# Altium schematic symbol library WE-HCI.SchLib: 126 symbols (part 1 of 3)
Pins are listed as number, name and electrical type; pins without a type are passive.

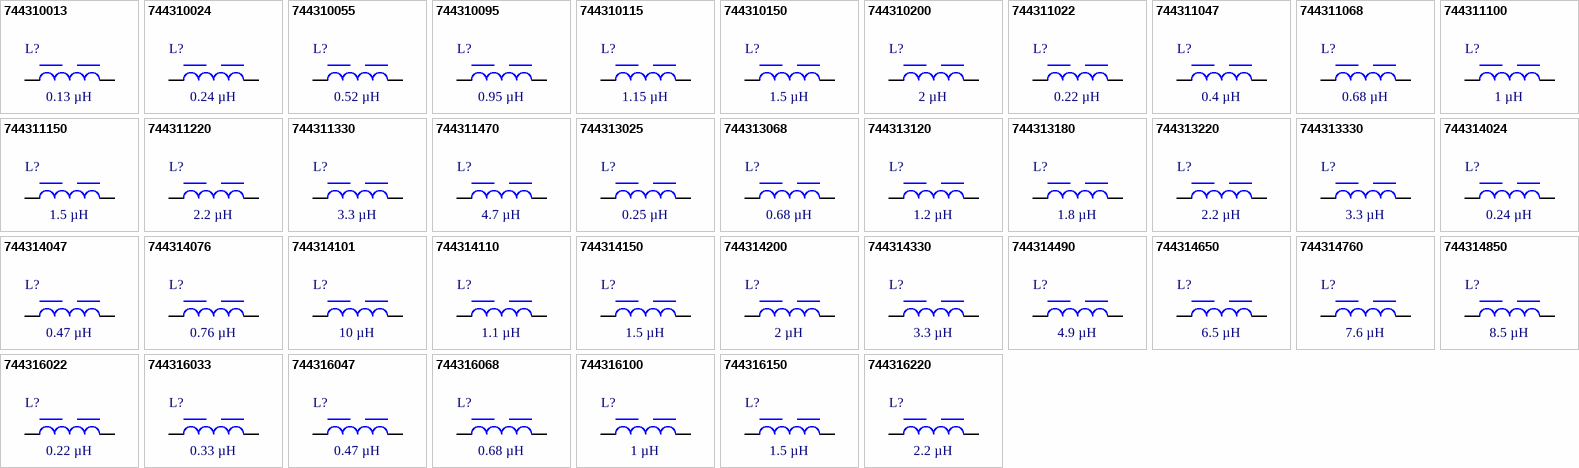
[diagram p0: symbols 744310013 to 744316220]

## 744310013
designator L?, comment 0.13 µH
WE-HCI SMT Flat Wire High Current Inductor, size 7030, 0.13 µH, 40.75 A, 0.91 mΩ; Manufacturer Part Number: 744310013; Manufacturer: Wurth Elektronik; Case/Size Code: 7030; DC Resistance: 0.91 mΩ; Material: Superflux; Performance Rated Current: 40.75 A; Saturation Current: 48 A; Self Resonant Frequency: 400 MHz; Category: Power Inductors; Match Code: WE-HCI; ComponentLink1Description: Website Link; ComponentLink1URL: https://www.we-online.com/redexpert/article/744310013?ad; ComponentLink2Description: Datasheet Link; ComponentLink2URL: https://www.we-online.com/redexpert/spec/744310013?ad; Mount: Surface Mount; Min Operating Temperature: -40 °C; Max Operating Temperature: 150 °C; Packaging: Tape and Reel; Length: 6.9 mm; Width: 6.9 mm; Height: 3 mm; Inductance: 0.13 µH
footprint WE-HCI_7030
simulation model 7030_744310013_0.13u
pins: 1, 2

## 744310024
designator L?, comment 0.24 µH
WE-HCI SMT Flat Wire High Current Inductor, size 7030, 0.24 µH, 28.8 A, 1.8 mΩ; Manufacturer Part Number: 744310024; Manufacturer: Wurth Elektronik; Case/Size Code: 7030; DC Resistance: 1.8 mΩ; Material: Superflux; Performance Rated Current: 28.8 A; Saturation Current: 40 A; Self Resonant Frequency: 220 MHz; Category: Power Inductors; Match Code: WE-HCI; ComponentLink1Description: Website Link; ComponentLink1URL: https://www.we-online.com/redexpert/article/744310024?ad; ComponentLink2Description: Datasheet Link; ComponentLink2URL: https://www.we-online.com/redexpert/spec/744310024?ad; Mount: Surface Mount; Min Operating Temperature: -40 °C; Max Operating Temperature: 150 °C; Packaging: Tape and Reel; Length: 6.9 mm; Width: 6.9 mm; Height: 3 mm; Inductance: 0.24 µH
footprint WE-HCI_7030
simulation model 7030_744310024_0.24u
pins: 1, 2

## 744310055
designator L?, comment 0.52 µH
WE-HCI SMT Flat Wire High Current Inductor, size 7030, 0.52 µH, 19.2 A, 3.7 mΩ; Manufacturer Part Number: 744310055; Manufacturer: Wurth Elektronik; Case/Size Code: 7030; DC Resistance: 3.7 mΩ; Material: Superflux; Performance Rated Current: 19.2 A; Saturation Current: 20 A; Self Resonant Frequency: 140 MHz; Category: Power Inductors; Match Code: WE-HCI; ComponentLink1Description: Website Link; ComponentLink1URL: https://www.we-online.com/redexpert/article/744310055?ad; ComponentLink2Description: Datasheet Link; ComponentLink2URL: https://www.we-online.com/redexpert/spec/744310055?ad; Mount: Surface Mount; Min Operating Temperature: -40 °C; Max Operating Temperature: 150 °C; Packaging: Tape and Reel; Length: 6.9 mm; Width: 6.9 mm; Height: 3 mm; Inductance: 0.52 µH
footprint WE-HCI_7030
simulation model 7030_744310055_0.52u
pins: 1, 2

## 744310095
designator L?, comment 0.95 µH
WE-HCI SMT Flat Wire High Current Inductor, size 7030, 0.95 µH, 14.4 A, 6.2 mΩ; Manufacturer Part Number: 744310095; Manufacturer: Wurth Elektronik; Case/Size Code: 7030; DC Resistance: 6.2 mΩ; Material: Superflux; Performance Rated Current: 14.4 A; Saturation Current: 13 A; Self Resonant Frequency: 90 MHz; Category: Power Inductors; Match Code: WE-HCI; ComponentLink1Description: Website Link; ComponentLink1URL: https://www.we-online.com/redexpert/article/744310095?ad; ComponentLink2Description: Datasheet Link; ComponentLink2URL: https://www.we-online.com/redexpert/spec/744310095?ad; Mount: Surface Mount; Min Operating Temperature: -40 °C; Max Operating Temperature: 150 °C; Packaging: Tape and Reel; Length: 6.9 mm; Width: 6.9 mm; Height: 3 mm; Inductance: 0.95 µH
footprint WE-HCI_7030
simulation model 7030_744310095_0.95u
pins: 1, 2

## 744310115
designator L?, comment 1.15 µH
WE-HCI SMT Flat Wire High Current Inductor, size 7030, 1.15 µH, 11.8 A, 8.6 mΩ; Manufacturer Part Number: 744310115; Manufacturer: Wurth Elektronik; Case/Size Code: 7030; DC Resistance: 8.6 mΩ; Material: Superflux; Performance Rated Current: 11.8 A; Saturation Current: 13 A; Self Resonant Frequency: 84 MHz; Category: Power Inductors; Match Code: WE-HCI; ComponentLink1Description: Website Link; ComponentLink1URL: https://www.we-online.com/redexpert/article/744310115?ad; ComponentLink2Description: Datasheet Link; ComponentLink2URL: https://www.we-online.com/redexpert/spec/744310115?ad; Mount: Surface Mount; Min Operating Temperature: -40 °C; Max Operating Temperature: 150 °C; Packaging: Tape and Reel; Length: 6.9 mm; Width: 6.9 mm; Height: 3 mm; Inductance: 1.15 µH
footprint WE-HCI_7030
simulation model 7030_744310115_1.15u
pins: 1, 2

## 744310150
designator L?, comment 1.5 µH
WE-HCI SMT Flat Wire High Current Inductor, size 7030, 1.5 µH, 9.6 A, 12.7 mΩ; Manufacturer Part Number: 744310150; Manufacturer: Wurth Elektronik; Case/Size Code: 7030; DC Resistance: 12.7 mΩ; Material: Superflux; Performance Rated Current: 9.6 A; Saturation Current: 12 A; Self Resonant Frequency: 80 MHz; Category: Power Inductors; Match Code: WE-HCI; ComponentLink1Description: Website Link; ComponentLink1URL: https://www.we-online.com/redexpert/article/744310150?ad; ComponentLink2Description: Datasheet Link; ComponentLink2URL: https://www.we-online.com/redexpert/spec/744310150?ad; Mount: Surface Mount; Min Operating Temperature: -40 °C; Max Operating Temperature: 150 °C; Packaging: Tape and Reel; Length: 6.9 mm; Width: 6.9 mm; Height: 3 mm; Inductance: 1.5 µH
footprint WE-HCI_7030
simulation model 7030_744310150_1.5u
pins: 1, 2

## 744310200
designator L?, comment 2 µH
WE-HCI SMT Flat Wire High Current Inductor, size 7030, 2 µH, 8.7 A, 14.2 mΩ; Manufacturer Part Number: 744310200; Manufacturer: Wurth Elektronik; Case/Size Code: 7030; DC Resistance: 14.2 mΩ; Material: Superflux; Performance Rated Current: 8.7 A; Saturation Current: 9 A; Self Resonant Frequency: 58 MHz; Category: Power Inductors; Match Code: WE-HCI; ComponentLink1Description: Website Link; ComponentLink1URL: https://www.we-online.com/redexpert/article/744310200?ad; ComponentLink2Description: Datasheet Link; ComponentLink2URL: https://www.we-online.com/redexpert/spec/744310200?ad; Mount: Surface Mount; Min Operating Temperature: -40 °C; Max Operating Temperature: 150 °C; Packaging: Tape and Reel; Length: 6.9 mm; Width: 6.9 mm; Height: 3 mm; Inductance: 2 µH
footprint WE-HCI_7030
simulation model 7030_744310200_2u
pins: 1, 2

## 744311022
designator L?, comment 0.22 µH
WE-HCI SMT Flat Wire High Current Inductor, size 7040, 0.22 µH, 36.4 A, 1.1 mΩ; Manufacturer Part Number: 744311022; Manufacturer: Wurth Elektronik; Case/Size Code: 7040; DC Resistance: 1.1 mΩ; Material: Superflux; Performance Rated Current: 36.4 A; Saturation Current: 32 A; Self Resonant Frequency: 290 MHz; Category: Power Inductors; Match Code: WE-HCI; ComponentLink1Description: Website Link; ComponentLink1URL: https://www.we-online.com/redexpert/article/744311022?ad; ComponentLink2Description: Datasheet Link; ComponentLink2URL: https://www.we-online.com/redexpert/spec/744311022?ad; Mount: Surface Mount; Min Operating Temperature: -40 °C; Max Operating Temperature: 150 °C; Packaging: Tape and Reel; Length: 6.9 mm; Width: 6.9 mm; Height: 3.8 mm; Inductance: 0.22 µH
footprint WE-HCI_7040
simulation model 7040_744311022_0.22u
pins: 1, 2

## 744311047
designator L?, comment 0.4 µH
WE-HCI SMT Flat Wire High Current Inductor, size 7040, 0.4 µH, 27.9 A, 1.85 mΩ; Manufacturer Part Number: 744311047; Manufacturer: Wurth Elektronik; Case/Size Code: 7040; DC Resistance: 1.85 mΩ; Material: Superflux; Performance Rated Current: 27.9 A; Saturation Current: 25 A; Self Resonant Frequency: 250 MHz; Category: Power Inductors; Match Code: WE-HCI; ComponentLink1Description: Website Link; ComponentLink1URL: https://www.we-online.com/redexpert/article/744311047?ad; ComponentLink2Description: Datasheet Link; ComponentLink2URL: https://www.we-online.com/redexpert/spec/744311047?ad; Mount: Surface Mount; Min Operating Temperature: -40 °C; Max Operating Temperature: 150 °C; Packaging: Tape and Reel; Length: 6.9 mm; Width: 6.9 mm; Height: 3.8 mm; Inductance: 0.4 µH
footprint WE-HCI_7040
simulation model 7040_744311047_0.4u
pins: 1, 2

## 744311068
designator L?, comment 0.68 µH
WE-HCI SMT Flat Wire High Current Inductor, size 7040, 0.68 µH, 20.9 A, 3.1 mΩ; Manufacturer Part Number: 744311068; Manufacturer: Wurth Elektronik; Case/Size Code: 7040; DC Resistance: 3.1 mΩ; Material: Superflux; Performance Rated Current: 20.9 A; Saturation Current: 20 A; Self Resonant Frequency: 105 MHz; Category: Power Inductors; Match Code: WE-HCI; ComponentLink1Description: Website Link; ComponentLink1URL: https://www.we-online.com/redexpert/article/744311068?ad; ComponentLink2Description: Datasheet Link; ComponentLink2URL: https://www.we-online.com/redexpert/spec/744311068?ad; Mount: Surface Mount; Min Operating Temperature: -40 °C; Max Operating Temperature: 150 °C; Packaging: Tape and Reel; Length: 6.9 mm; Width: 6.9 mm; Height: 3.8 mm; Inductance: 0.68 µH
footprint WE-HCI_7040
simulation model 7040_744311068_0.68u
pins: 1, 2

## 744311100
designator L?, comment 1 µH
WE-HCI SMT Flat Wire High Current Inductor, size 7040, 1 µH, 16.8 A, 4.6 mΩ; Manufacturer Part Number: 744311100; Manufacturer: Wurth Elektronik; Case/Size Code: 7040; DC Resistance: 4.6 mΩ; Material: Superflux; Performance Rated Current: 16.8 A; Saturation Current: 19 A; Self Resonant Frequency: 85 MHz; Category: Power Inductors; Match Code: WE-HCI; ComponentLink1Description: Website Link; ComponentLink1URL: https://www.we-online.com/redexpert/article/744311100?ad; ComponentLink2Description: Datasheet Link; ComponentLink2URL: https://www.we-online.com/redexpert/spec/744311100?ad; Mount: Surface Mount; Min Operating Temperature: -40 °C; Max Operating Temperature: 150 °C; Packaging: Tape and Reel; Length: 6.9 mm; Width: 6.9 mm; Height: 3.8 mm; Inductance: 1 µH
footprint WE-HCI_7040
simulation model 7040_744311100_1u
pins: 1, 2

## 744311150
designator L?, comment 1.5 µH
WE-HCI SMT Flat Wire High Current Inductor, size 7040, 1.5 µH, 13.8 A, 6.6 mΩ; Manufacturer Part Number: 744311150; Manufacturer: Wurth Elektronik; Case/Size Code: 7040; DC Resistance: 6.6 mΩ; Material: Superflux; Performance Rated Current: 13.8 A; Saturation Current: 14 A; Self Resonant Frequency: 72 MHz; Category: Power Inductors; Match Code: WE-HCI; ComponentLink1Description: Website Link; ComponentLink1URL: https://www.we-online.com/redexpert/article/744311150?ad; ComponentLink2Description: Datasheet Link; ComponentLink2URL: https://www.we-online.com/redexpert/spec/744311150?ad; Mount: Surface Mount; Min Operating Temperature: -40 °C; Max Operating Temperature: 150 °C; Packaging: Tape and Reel; Length: 6.9 mm; Width: 6.9 mm; Height: 3.8 mm; Inductance: 1.5 µH
footprint WE-HCI_7040
simulation model 7040_744311150_1.5u
pins: 1, 2

## 744311220
designator L?, comment 2.2 µH
WE-HCI SMT Flat Wire High Current Inductor, size 7040, 2.2 µH, 10.2 A, 11.4 mΩ; Manufacturer Part Number: 744311220; Manufacturer: Wurth Elektronik; Case/Size Code: 7040; DC Resistance: 11.4 mΩ; Material: Superflux; Performance Rated Current: 10.2 A; Saturation Current: 13 A; Self Resonant Frequency: 52 MHz; Category: Power Inductors; Match Code: WE-HCI; ComponentLink1Description: Website Link; ComponentLink1URL: https://www.we-online.com/redexpert/article/744311220?ad; ComponentLink2Description: Datasheet Link; ComponentLink2URL: https://www.we-online.com/redexpert/spec/744311220?ad; Mount: Surface Mount; Min Operating Temperature: -40 °C; Max Operating Temperature: 150 °C; Packaging: Tape and Reel; Length: 6.9 mm; Width: 6.9 mm; Height: 3.8 mm; Inductance: 2.2 µH
footprint WE-HCI_7040
simulation model 7040_744311220_2.2u
pins: 1, 2

## 744311330
designator L?, comment 3.3 µH
WE-HCI SMT Flat Wire High Current Inductor, size 7040, 3.3 µH, 8.1 A, 17.2 mΩ; Manufacturer Part Number: 744311330; Manufacturer: Wurth Elektronik; Case/Size Code: 7040; DC Resistance: 17.2 mΩ; Material: Superflux; Performance Rated Current: 8.1 A; Saturation Current: 11 A; Self Resonant Frequency: 43 MHz; Category: Power Inductors; Match Code: WE-HCI; ComponentLink1Description: Website Link; ComponentLink1URL: https://www.we-online.com/redexpert/article/744311330?ad; ComponentLink2Description: Datasheet Link; ComponentLink2URL: https://www.we-online.com/redexpert/spec/744311330?ad; Mount: Surface Mount; Min Operating Temperature: -40 °C; Max Operating Temperature: 150 °C; Packaging: Tape and Reel; Length: 6.9 mm; Width: 6.9 mm; Height: 3.8 mm; Inductance: 3.3 µH
footprint WE-HCI_7040
simulation model 7040_744311330_3.3u
pins: 1, 2

## 744311470
designator L?, comment 4.7 µH
WE-HCI SMT Flat Wire High Current Inductor, size 7040, 4.7 µH, 7.8 A, 19.5 mΩ; Manufacturer Part Number: 744311470; Manufacturer: Wurth Elektronik; Case/Size Code: 7040; DC Resistance: 19.5 mΩ; Material: Superflux; Performance Rated Current: 7.8 A; Saturation Current: 7 A; Self Resonant Frequency: 33 MHz; Category: Power Inductors; Match Code: WE-HCI; ComponentLink1Description: Website Link; ComponentLink1URL: https://www.we-online.com/redexpert/article/744311470?ad; ComponentLink2Description: Datasheet Link; ComponentLink2URL: https://www.we-online.com/redexpert/spec/744311470?ad; Mount: Surface Mount; Min Operating Temperature: -40 °C; Max Operating Temperature: 150 °C; Packaging: Tape and Reel; Length: 6.9 mm; Width: 6.9 mm; Height: 3.8 mm; Inductance: 4.7 µH
footprint WE-HCI_7040
simulation model 7040_744311470_4.7u
pins: 1, 2

## 744313025
designator L?, comment 0.25 µH
WE-HCI SMT Flat Wire High Current Inductor, size 1335, 0.25 µH, 61.7 A, 0.75 mΩ; Manufacturer Part Number: 744313025; Manufacturer: Wurth Elektronik; Case/Size Code: 1335; DC Resistance: 0.75 mΩ; Material: Superflux; Performance Rated Current: 61.7 A; Saturation Current: 60 A; Self Resonant Frequency: 170 MHz; Category: Power Inductors; Match Code: WE-HCI; ComponentLink1Description: Website Link; ComponentLink1URL: https://www.we-online.com/redexpert/article/744313025?ad; ComponentLink2Description: Datasheet Link; ComponentLink2URL: https://www.we-online.com/redexpert/spec/744313025?ad; Mount: Surface Mount; Min Operating Temperature: -40 °C; Max Operating Temperature: 150 °C; Packaging: Tape and Reel; Length: 12.8 mm; Width: 12.8 mm; Height: 3.3 mm; Inductance: 0.25 µH
footprint WE-HCI_1335
simulation model 1335_744313025_0.25u
pins: 1, 2

## 744313068
designator L?, comment 0.68 µH
WE-HCI SMT Flat Wire High Current Inductor, size 1335, 0.68 µH, 38.5 A, 1.58 mΩ; Manufacturer Part Number: 744313068; Manufacturer: Wurth Elektronik; Case/Size Code: 1335; DC Resistance: 1.58 mΩ; Material: Superflux; Performance Rated Current: 38.5 A; Saturation Current: 40 A; Self Resonant Frequency: 90 MHz; Category: Power Inductors; Match Code: WE-HCI; ComponentLink1Description: Website Link; ComponentLink1URL: https://www.we-online.com/redexpert/article/744313068?ad; ComponentLink2Description: Datasheet Link; ComponentLink2URL: https://www.we-online.com/redexpert/spec/744313068?ad; Mount: Surface Mount; Min Operating Temperature: -40 °C; Max Operating Temperature: 150 °C; Packaging: Tape and Reel; Length: 12.8 mm; Width: 12.8 mm; Height: 3.3 mm; Inductance: 0.68 µH
footprint WE-HCI_1335
simulation model 1335_744313068_0.68u
pins: 1, 2

## 744313120
designator L?, comment 1.2 µH
WE-HCI SMT Flat Wire High Current Inductor, size 1335, 1.2 µH, 28.8 A, 2.85 mΩ; Manufacturer Part Number: 744313120; Manufacturer: Wurth Elektronik; Case/Size Code: 1335; DC Resistance: 2.85 mΩ; Material: Superflux; Performance Rated Current: 28.8 A; Saturation Current: 28 A; Self Resonant Frequency: 58 MHz; Category: Power Inductors; Match Code: WE-HCI; ComponentLink1Description: Website Link; ComponentLink1URL: https://www.we-online.com/redexpert/article/744313120?ad; ComponentLink2Description: Datasheet Link; ComponentLink2URL: https://www.we-online.com/redexpert/spec/744313120?ad; Mount: Surface Mount; Min Operating Temperature: -40 °C; Max Operating Temperature: 150 °C; Packaging: Tape and Reel; Length: 12.8 mm; Width: 12.8 mm; Height: 3.3 mm; Inductance: 1.2 µH
footprint WE-HCI_1335
simulation model 1335_744313120_1.2u
pins: 1, 2

## 744313180
designator L?, comment 1.8 µH
WE-HCI SMT Flat Wire High Current Inductor, size 1335, 1.8 µH, 19.5 A, 5.6 mΩ; Manufacturer Part Number: 744313180; Manufacturer: Wurth Elektronik; Case/Size Code: 1335; DC Resistance: 5.6 mΩ; Material: Superflux; Performance Rated Current: 19.5 A; Saturation Current: 22 A; Self Resonant Frequency: 48 MHz; Category: Power Inductors; Match Code: WE-HCI; ComponentLink1Description: Website Link; ComponentLink1URL: https://www.we-online.com/redexpert/article/744313180?ad; ComponentLink2Description: Datasheet Link; ComponentLink2URL: https://www.we-online.com/redexpert/spec/744313180?ad; Mount: Surface Mount; Min Operating Temperature: -40 °C; Max Operating Temperature: 150 °C; Packaging: Tape and Reel; Length: 12.8 mm; Width: 12.8 mm; Height: 3.3 mm; Inductance: 1.8 µH
footprint WE-HCI_1335
simulation model 1335_744313180_1.8u
pins: 1, 2

## 744313220
designator L?, comment 2.2 µH
WE-HCI SMT Flat Wire High Current Inductor, size 1335, 2.2 µH, 19.4 A, 5.7 mΩ; Manufacturer Part Number: 744313220; Manufacturer: Wurth Elektronik; Case/Size Code: 1335; DC Resistance: 5.7 mΩ; Material: Superflux; Performance Rated Current: 19.4 A; Saturation Current: 18 A; Self Resonant Frequency: 40 MHz; Category: Power Inductors; Match Code: WE-HCI; ComponentLink1Description: Website Link; ComponentLink1URL: https://www.we-online.com/redexpert/article/744313220?ad; ComponentLink2Description: Datasheet Link; ComponentLink2URL: https://www.we-online.com/redexpert/spec/744313220?ad; Mount: Surface Mount; Min Operating Temperature: -40 °C; Max Operating Temperature: 150 °C; Packaging: Tape and Reel; Length: 12.8 mm; Width: 12.8 mm; Height: 3.3 mm; Inductance: 2.2 µH
footprint WE-HCI_1335
simulation model 1335_744313220_2.2u
pins: 1, 2

## 744313330
designator L?, comment 3.3 µH
WE-HCI SMT Flat Wire High Current Inductor, size 1335, 3.3 µH, 16.3 A, 8.1 mΩ; Manufacturer Part Number: 744313330; Manufacturer: Wurth Elektronik; Case/Size Code: 1335; DC Resistance: 8.1 mΩ; Material: Superflux; Performance Rated Current: 16.3 A; Saturation Current: 14 A; Self Resonant Frequency: 30 MHz; Category: Power Inductors; Match Code: WE-HCI; ComponentLink1Description: Website Link; ComponentLink1URL: https://www.we-online.com/redexpert/article/744313330?ad; ComponentLink2Description: Datasheet Link; ComponentLink2URL: https://www.we-online.com/redexpert/spec/744313330?ad; Mount: Surface Mount; Min Operating Temperature: -40 °C; Max Operating Temperature: 150 °C; Packaging: Tape and Reel; Length: 12.8 mm; Width: 12.8 mm; Height: 3.3 mm; Inductance: 3.3 µH
footprint WE-HCI_1335
simulation model 1335_744313330_3.3u
pins: 1, 2

## 744314024
designator L?, comment 0.24 µH
WE-HCI SMT Flat Wire High Current Inductor, size 7050, 0.24 µH, 35.4 A, 1 mΩ; Manufacturer Part Number: 744314024; Manufacturer: Wurth Elektronik; Case/Size Code: 7050; DC Resistance: 1 mΩ; Material: Superflux; Performance Rated Current: 35.4 A; Saturation Current: 28 A; Self Resonant Frequency: 320 MHz; Category: Power Inductors; Match Code: WE-HCI; ComponentLink1Description: Website Link; ComponentLink1URL: https://www.we-online.com/redexpert/article/744314024?ad; ComponentLink2Description: Datasheet Link; ComponentLink2URL: https://www.we-online.com/redexpert/spec/744314024?ad; Mount: Surface Mount; Min Operating Temperature: -40 °C; Max Operating Temperature: 150 °C; Packaging: Tape and Reel; Length: 6.9 mm; Width: 6.9 mm; Height: 4.8 mm; Inductance: 0.24 µH
footprint WE-HCI_7050
simulation model 7050_744314024_0.24u
pins: 1, 2

## 744314047
designator L?, comment 0.47 µH
WE-HCI SMT Flat Wire High Current Inductor, size 7050, 0.47 µH, 31.9 A, 1.35 mΩ; Manufacturer Part Number: 744314047; Manufacturer: Wurth Elektronik; Case/Size Code: 7050; DC Resistance: 1.35 mΩ; Material: Superflux; Performance Rated Current: 31.9 A; Saturation Current: 20 A; Self Resonant Frequency: 235 MHz; Category: Power Inductors; Match Code: WE-HCI; ComponentLink1Description: Website Link; ComponentLink1URL: https://www.we-online.com/redexpert/article/744314047?ad; ComponentLink2Description: Datasheet Link; ComponentLink2URL: https://www.we-online.com/redexpert/spec/744314047?ad; Mount: Surface Mount; Min Operating Temperature: -40 °C; Max Operating Temperature: 150 °C; Packaging: Tape and Reel; Length: 6.9 mm; Width: 6.9 mm; Height: 4.8 mm; Inductance: 0.47 µH
footprint WE-HCI_7050
simulation model 7050_744314047_0.47u
pins: 1, 2

## 744314076
designator L?, comment 0.76 µH
WE-HCI SMT Flat Wire High Current Inductor, size 7050, 0.76 µH, 22.9 A, 2.25 mΩ; Manufacturer Part Number: 744314076; Manufacturer: Wurth Elektronik; Case/Size Code: 7050; DC Resistance: 2.25 mΩ; Material: Superflux; Performance Rated Current: 22.9 A; Saturation Current: 15 A; Self Resonant Frequency: 200 MHz; Category: Power Inductors; Match Code: WE-HCI; ComponentLink1Description: Website Link; ComponentLink1URL: https://www.we-online.com/redexpert/article/744314076?ad; ComponentLink2Description: Datasheet Link; ComponentLink2URL: https://www.we-online.com/redexpert/spec/744314076?ad; Mount: Surface Mount; Min Operating Temperature: -40 °C; Max Operating Temperature: 150 °C; Packaging: Tape and Reel; Length: 6.9 mm; Width: 6.9 mm; Height: 4.8 mm; Inductance: 0.76 µH
footprint WE-HCI_7050
simulation model 7050_744314076_0.76u
pins: 1, 2

## 744314101
designator L?, comment 10 µH
WE-HCI SMT Flat Wire High Current Inductor, size 7050, 10 µH, 5.3 A, 33 mΩ; Manufacturer Part Number: 744314101; Manufacturer: Wurth Elektronik; Case/Size Code: 7050; DC Resistance: 33 mΩ; Material: Superflux; Performance Rated Current: 5.3 A; Saturation Current: 4 A; Self Resonant Frequency: 40 MHz; Category: Power Inductors; Match Code: WE-HCI; ComponentLink1Description: Website Link; ComponentLink1URL: https://www.we-online.com/redexpert/article/744314101?ad; ComponentLink2Description: Datasheet Link; ComponentLink2URL: https://www.we-online.com/redexpert/spec/744314101?ad; Mount: Surface Mount; Min Operating Temperature: -40 °C; Max Operating Temperature: 150 °C; Packaging: Tape and Reel; Length: 6.9 mm; Width: 6.9 mm; Height: 4.8 mm; Inductance: 10 µH
footprint WE-HCI_7050
simulation model 7050_744314101_10u
pins: 1, 2

## 744314110
designator L?, comment 1.1 µH
WE-HCI SMT Flat Wire High Current Inductor, size 7050, 1.1 µH, 19.6 A, 3.15 mΩ; Manufacturer Part Number: 744314110; Manufacturer: Wurth Elektronik; Case/Size Code: 7050; DC Resistance: 3.15 mΩ; Material: Superflux; Performance Rated Current: 19.6 A; Saturation Current: 13 A; Self Resonant Frequency: 135 MHz; Category: Power Inductors; Match Code: WE-HCI; ComponentLink1Description: Website Link; ComponentLink1URL: https://www.we-online.com/redexpert/article/744314110?ad; ComponentLink2Description: Datasheet Link; ComponentLink2URL: https://www.we-online.com/redexpert/spec/744314110?ad; Mount: Surface Mount; Min Operating Temperature: -40 °C; Max Operating Temperature: 150 °C; Packaging: Tape and Reel; Length: 6.9 mm; Width: 6.9 mm; Height: 4.8 mm; Inductance: 1.1 µH
footprint WE-HCI_7050
simulation model 7050_744314110_1.1u
pins: 1, 2

## 744314150
designator L?, comment 1.5 µH
WE-HCI SMT Flat Wire High Current Inductor, size 7050, 1.5 µH, 16.4 A, 4.3 mΩ; Manufacturer Part Number: 744314150; Manufacturer: Wurth Elektronik; Case/Size Code: 7050; DC Resistance: 4.3 mΩ; Material: Superflux; Performance Rated Current: 16.4 A; Saturation Current: 11 A; Self Resonant Frequency: 110 MHz; Category: Power Inductors; Match Code: WE-HCI; ComponentLink1Description: Website Link; ComponentLink1URL: https://www.we-online.com/redexpert/article/744314150?ad; ComponentLink2Description: Datasheet Link; ComponentLink2URL: https://www.we-online.com/redexpert/spec/744314150?ad; Mount: Surface Mount; Min Operating Temperature: -40 °C; Max Operating Temperature: 150 °C; Packaging: Tape and Reel; Length: 6.9 mm; Width: 6.9 mm; Height: 4.8 mm; Inductance: 1.5 µH
footprint WE-HCI_7050
simulation model 7050_744314150_1.5u
pins: 1, 2

## 744314200
designator L?, comment 2 µH
WE-HCI SMT Flat Wire High Current Inductor, size 7050, 2 µH, 13.8 A, 5.85 mΩ; Manufacturer Part Number: 744314200; Manufacturer: Wurth Elektronik; Case/Size Code: 7050; DC Resistance: 5.85 mΩ; Material: Superflux; Performance Rated Current: 13.8 A; Saturation Current: 9 A; Self Resonant Frequency: 68 MHz; Category: Power Inductors; Match Code: WE-HCI; ComponentLink1Description: Website Link; ComponentLink1URL: https://www.we-online.com/redexpert/article/744314200?ad; ComponentLink2Description: Datasheet Link; ComponentLink2URL: https://www.we-online.com/redexpert/spec/744314200?ad; Mount: Surface Mount; Min Operating Temperature: -40 °C; Max Operating Temperature: 150 °C; Packaging: Tape and Reel; Length: 6.9 mm; Width: 6.9 mm; Height: 4.8 mm; Inductance: 2 µH
footprint WE-HCI_7050
simulation model 7050_744314200_2u
pins: 1, 2

## 744314330
designator L?, comment 3.3 µH
WE-HCI SMT Flat Wire High Current Inductor, size 7050, 3.3 µH, 10.9 A, 9 mΩ; Manufacturer Part Number: 744314330; Manufacturer: Wurth Elektronik; Case/Size Code: 7050; DC Resistance: 9 mΩ; Material: Superflux; Performance Rated Current: 10.9 A; Saturation Current: 8 A; Self Resonant Frequency: 65 MHz; Category: Power Inductors; Match Code: WE-HCI; ComponentLink1Description: Website Link; ComponentLink1URL: https://www.we-online.com/redexpert/article/744314330?ad; ComponentLink2Description: Datasheet Link; ComponentLink2URL: https://www.we-online.com/redexpert/spec/744314330?ad; Mount: Surface Mount; Min Operating Temperature: -40 °C; Max Operating Temperature: 150 °C; Packaging: Tape and Reel; Length: 6.9 mm; Width: 6.9 mm; Height: 4.8 mm; Inductance: 3.3 µH
footprint WE-HCI_7050
simulation model 7050_744314330_3.3u
pins: 1, 2

## 744314490
designator L?, comment 4.9 µH
WE-HCI SMT Flat Wire High Current Inductor, size 7050, 4.9 µH, 8.3 A, 14.5 mΩ; Manufacturer Part Number: 744314490; Manufacturer: Wurth Elektronik; Case/Size Code: 7050; DC Resistance: 14.5 mΩ; Material: Superflux; Performance Rated Current: 8.3 A; Saturation Current: 6.5 A; Self Resonant Frequency: 56 MHz; Category: Power Inductors; Match Code: WE-HCI; ComponentLink1Description: Website Link; ComponentLink1URL: https://www.we-online.com/redexpert/article/744314490?ad; ComponentLink2Description: Datasheet Link; ComponentLink2URL: https://www.we-online.com/redexpert/spec/744314490?ad; Mount: Surface Mount; Min Operating Temperature: -40 °C; Max Operating Temperature: 150 °C; Packaging: Tape and Reel; Length: 6.9 mm; Width: 6.9 mm; Height: 4.8 mm; Inductance: 4.9 µH
footprint WE-HCI_7050
simulation model 7050_744314490_4.9u
pins: 1, 2

## 744314650
designator L?, comment 6.5 µH
WE-HCI SMT Flat Wire High Current Inductor, size 7050, 6.5 µH, 6.6 A, 21.5 mΩ; Manufacturer Part Number: 744314650; Manufacturer: Wurth Elektronik; Case/Size Code: 7050; DC Resistance: 21.5 mΩ; Material: Superflux; Performance Rated Current: 6.6 A; Saturation Current: 6 A; Self Resonant Frequency: 50 MHz; Category: Power Inductors; Match Code: WE-HCI; ComponentLink1Description: Website Link; ComponentLink1URL: https://www.we-online.com/redexpert/article/744314650?ad; ComponentLink2Description: Datasheet Link; ComponentLink2URL: https://www.we-online.com/redexpert/spec/744314650?ad; Mount: Surface Mount; Min Operating Temperature: -40 °C; Max Operating Temperature: 150 °C; Packaging: Tape and Reel; Length: 6.9 mm; Width: 6.9 mm; Height: 4.8 mm; Inductance: 6.5 µH
footprint WE-HCI_7050
simulation model 7050_744314650_6.5u
pins: 1, 2

## 744314760
designator L?, comment 7.6 µH
WE-HCI SMT Flat Wire High Current Inductor, size 7050, 7.6 µH, 5.5 A, 28.2 mΩ; Manufacturer Part Number: 744314760; Manufacturer: Wurth Elektronik; Case/Size Code: 7050; DC Resistance: 28.2 mΩ; Material: Superflux; Performance Rated Current: 5.5 A; Saturation Current: 4.8 A; Self Resonant Frequency: 48 MHz; Category: Power Inductors; Match Code: WE-HCI; ComponentLink1Description: Website Link; ComponentLink1URL: https://www.we-online.com/redexpert/article/744314760?ad; ComponentLink2Description: Datasheet Link; ComponentLink2URL: https://www.we-online.com/redexpert/spec/744314760?ad; Mount: Surface Mount; Min Operating Temperature: -40 °C; Max Operating Temperature: 150 °C; Packaging: Tape and Reel; Length: 6.9 mm; Width: 6.9 mm; Height: 4.8 mm; Inductance: 7.6 µH
footprint WE-HCI_7050
simulation model 7050_744314760_7.6u
pins: 1, 2

## 744314850
designator L?, comment 8.5 µH
WE-HCI SMT Flat Wire High Current Inductor, size 7050, 8.5 µH, 5.3 A, 30.5 mΩ; Manufacturer Part Number: 744314850; Manufacturer: Wurth Elektronik; Case/Size Code: 7050; DC Resistance: 30.5 mΩ; Material: Superflux; Performance Rated Current: 5.3 A; Saturation Current: 4.5 A; Self Resonant Frequency: 44 MHz; Category: Power Inductors; Match Code: WE-HCI; ComponentLink1Description: Website Link; ComponentLink1URL: https://www.we-online.com/redexpert/article/744314850?ad; ComponentLink2Description: Datasheet Link; ComponentLink2URL: https://www.we-online.com/redexpert/spec/744314850?ad; Mount: Surface Mount; Min Operating Temperature: -40 °C; Max Operating Temperature: 150 °C; Packaging: Tape and Reel; Length: 6.9 mm; Width: 6.9 mm; Height: 4.8 mm; Inductance: 8.5 µH
footprint WE-HCI_7050
simulation model 7050_744314850_8.5u
pins: 1, 2

## 744316022
designator L?, comment 0.22 µH
WE-HCI SMT Flat Wire High Current Inductor, size 5040, 0.22 µH, 29.9 A, 1.25 mΩ; Manufacturer Part Number: 744316022; Manufacturer: Wurth Elektronik; Case/Size Code: 5040; DC Resistance: 1.25 mΩ; Material: Superflux; Performance Rated Current: 29.9 A; Saturation Current: 25 A; Self Resonant Frequency: 507 MHz; Category: Power Inductors; Match Code: WE-HCI; ComponentLink1Description: Website Link; ComponentLink1URL: https://www.we-online.com/redexpert/article/744316022?ad; ComponentLink2Description: Datasheet Link; ComponentLink2URL: https://www.we-online.com/redexpert/spec/744316022?ad; Mount: Surface Mount; Min Operating Temperature: -40 °C; Max Operating Temperature: 150 °C; Packaging: Tape and Reel; Length: 5.3 mm; Width: 5.5 mm; Height: 4 mm; Inductance: 0.22 µH
footprint WE-HCI_5040
simulation model 5040_744316022_0.22u
pins: 1, 2

## 744316033
designator L?, comment 0.33 µH
WE-HCI SMT Flat Wire High Current Inductor, size 5040, 0.33 µH, 25.5 A, 1.75 mΩ; Manufacturer Part Number: 744316033; Manufacturer: Wurth Elektronik; Case/Size Code: 5040; DC Resistance: 1.75 mΩ; Material: Superflux; Performance Rated Current: 25.5 A; Saturation Current: 20 A; Self Resonant Frequency: 402 MHz; Category: Power Inductors; Match Code: WE-HCI; ComponentLink1Description: Website Link; ComponentLink1URL: https://www.we-online.com/redexpert/article/744316033?ad; ComponentLink2Description: Datasheet Link; ComponentLink2URL: https://www.we-online.com/redexpert/spec/744316033?ad; Mount: Surface Mount; Min Operating Temperature: -40 °C; Max Operating Temperature: 150 °C; Packaging: Tape and Reel; Length: 5.3 mm; Width: 5.5 mm; Height: 4 mm; Inductance: 0.33 µH
footprint WE-HCI_5040
simulation model 5040_744316033_0.33u
pins: 1, 2

## 744316047
designator L?, comment 0.47 µH
WE-HCI SMT Flat Wire High Current Inductor, size 5040, 0.47 µH, 19.5 A, 2.75 mΩ; Manufacturer Part Number: 744316047; Manufacturer: Wurth Elektronik; Case/Size Code: 5040; DC Resistance: 2.75 mΩ; Material: Superflux; Performance Rated Current: 19.5 A; Saturation Current: 16 A; Self Resonant Frequency: 280 MHz; Category: Power Inductors; Match Code: WE-HCI; ComponentLink1Description: Website Link; ComponentLink1URL: https://www.we-online.com/redexpert/article/744316047?ad; ComponentLink2Description: Datasheet Link; ComponentLink2URL: https://www.we-online.com/redexpert/spec/744316047?ad; Mount: Surface Mount; Min Operating Temperature: -40 °C; Max Operating Temperature: 150 °C; Packaging: Tape and Reel; Length: 5.3 mm; Width: 5.5 mm; Height: 4 mm; Inductance: 0.47 µH
footprint WE-HCI_5040
simulation model 5040_744316047_0.47u
pins: 1, 2

## 744316068
designator L?, comment 0.68 µH
WE-HCI SMT Flat Wire High Current Inductor, size 5040, 0.68 µH, 16 A, 4 mΩ; Manufacturer Part Number: 744316068; Manufacturer: Wurth Elektronik; Case/Size Code: 5040; DC Resistance: 4 mΩ; Material: Superflux; Performance Rated Current: 16 A; Saturation Current: 13.5 A; Self Resonant Frequency: 253 MHz; Category: Power Inductors; Match Code: WE-HCI; ComponentLink1Description: Website Link; ComponentLink1URL: https://www.we-online.com/redexpert/article/744316068?ad; ComponentLink2Description: Datasheet Link; ComponentLink2URL: https://www.we-online.com/redexpert/spec/744316068?ad; Mount: Surface Mount; Min Operating Temperature: -40 °C; Max Operating Temperature: 150 °C; Packaging: Tape and Reel; Length: 5.3 mm; Width: 5.5 mm; Height: 4 mm; Inductance: 0.68 µH
footprint WE-HCI_5040
simulation model 5040_744316068_0.68u
pins: 1, 2

## 744316100
designator L?, comment 1 µH
WE-HCI SMT Flat Wire High Current Inductor, size 5040, 1 µH, 14.8 A, 4.75 mΩ; Manufacturer Part Number: 744316100; Manufacturer: Wurth Elektronik; Case/Size Code: 5040; DC Resistance: 4.75 mΩ; Material: Superflux; Performance Rated Current: 14.8 A; Saturation Current: 11.5 A; Self Resonant Frequency: 158 MHz; Category: Power Inductors; Match Code: WE-HCI; ComponentLink1Description: Website Link; ComponentLink1URL: https://www.we-online.com/redexpert/article/744316100?ad; ComponentLink2Description: Datasheet Link; ComponentLink2URL: https://www.we-online.com/redexpert/spec/744316100?ad; Mount: Surface Mount; Min Operating Temperature: -40 °C; Max Operating Temperature: 150 °C; Packaging: Tape and Reel; Length: 5.3 mm; Width: 5.5 mm; Height: 4 mm; Inductance: 1 µH
footprint WE-HCI_5040
simulation model 5040_744316100_1u
pins: 1, 2

## 744316150
designator L?, comment 1.5 µH
WE-HCI SMT Flat Wire High Current Inductor, size 5040, 1.5 µH, 11 A, 8.15 mΩ; Manufacturer Part Number: 744316150; Manufacturer: Wurth Elektronik; Case/Size Code: 5040; DC Resistance: 8.15 mΩ; Material: Superflux; Performance Rated Current: 11 A; Saturation Current: 9 A; Self Resonant Frequency: 110 MHz; Category: Power Inductors; Match Code: WE-HCI; ComponentLink1Description: Website Link; ComponentLink1URL: https://www.we-online.com/redexpert/article/744316150?ad; ComponentLink2Description: Datasheet Link; ComponentLink2URL: https://www.we-online.com/redexpert/spec/744316150?ad; Mount: Surface Mount; Min Operating Temperature: -40 °C; Max Operating Temperature: 150 °C; Packaging: Tape and Reel; Length: 5.3 mm; Width: 5.5 mm; Height: 4 mm; Inductance: 1.5 µH
footprint WE-HCI_5040
simulation model 5040_744316150_1.5u
pins: 1, 2

## 744316220
designator L?, comment 2.2 µH
WE-HCI SMT Flat Wire High Current Inductor, size 5040, 2.2 µH, 9.2 A, 11.3 mΩ; Manufacturer Part Number: 744316220; Manufacturer: Wurth Elektronik; Case/Size Code: 5040; DC Resistance: 11.3 mΩ; Material: Superflux; Performance Rated Current: 9.2 A; Saturation Current: 7.5 A; Self Resonant Frequency: 108 MHz; Category: Power Inductors; Match Code: WE-HCI; ComponentLink1Description: Website Link; ComponentLink1URL: https://www.we-online.com/redexpert/article/744316220?ad; ComponentLink2Description: Datasheet Link; ComponentLink2URL: https://www.we-online.com/redexpert/spec/744316220?ad; Mount: Surface Mount; Min Operating Temperature: -40 °C; Max Operating Temperature: 150 °C; Packaging: Tape and Reel; Length: 5.3 mm; Width: 5.5 mm; Height: 4 mm; Inductance: 2.2 µH
footprint WE-HCI_5040
simulation model 5040_744316220_2.2u
pins: 1, 2

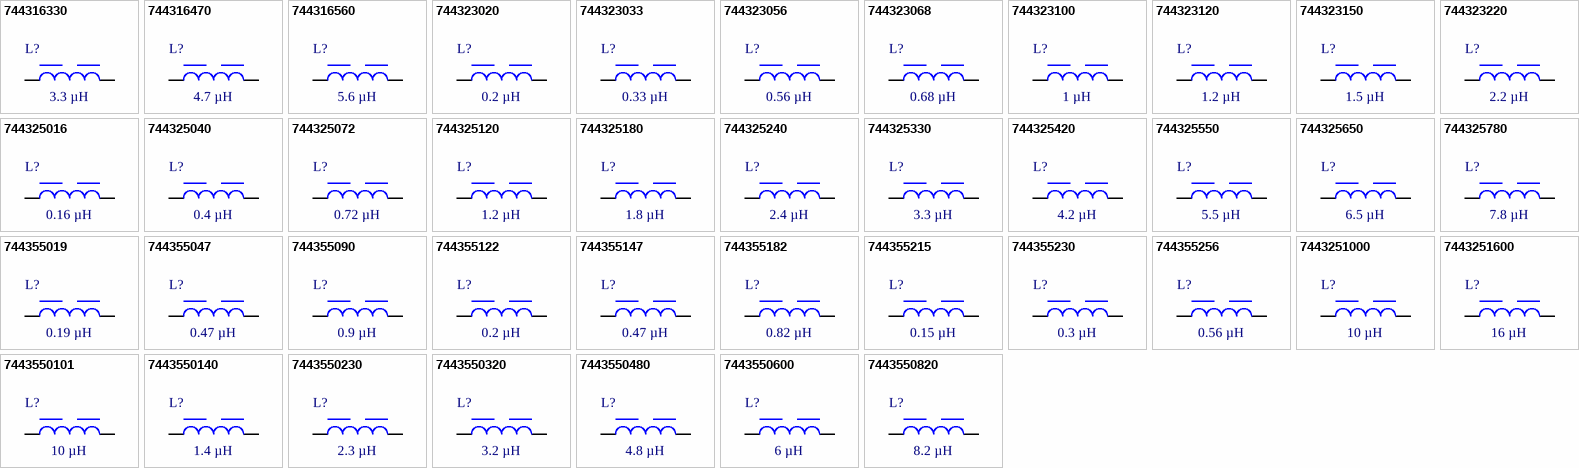
[diagram p1: symbols 744316330 to 7443550820]

## 744316330
designator L?, comment 3.3 µH
WE-HCI SMT Flat Wire High Current Inductor, size 5040, 3.3 µH, 7.1 A, 18.5 mΩ; Manufacturer Part Number: 744316330; Manufacturer: Wurth Elektronik; Case/Size Code: 5040; DC Resistance: 18.5 mΩ; Material: Superflux; Performance Rated Current: 7.1 A; Saturation Current: 5.8 A; Self Resonant Frequency: 66 MHz; Category: Power Inductors; Match Code: WE-HCI; ComponentLink1Description: Website Link; ComponentLink1URL: https://www.we-online.com/redexpert/article/744316330?ad; ComponentLink2Description: Datasheet Link; ComponentLink2URL: https://www.we-online.com/redexpert/spec/744316330?ad; Mount: Surface Mount; Min Operating Temperature: -40 °C; Max Operating Temperature: 150 °C; Packaging: Tape and Reel; Length: 5.3 mm; Width: 5.5 mm; Height: 4 mm; Inductance: 3.3 µH
footprint WE-HCI_5040
simulation model 5040_744316330_3.3u
pins: 1, 2

## 744316470
designator L?, comment 4.7 µH
WE-HCI SMT Flat Wire High Current Inductor, size 5040, 4.7 µH, 6 A, 24.5 mΩ; Manufacturer Part Number: 744316470; Manufacturer: Wurth Elektronik; Case/Size Code: 5040; DC Resistance: 24.5 mΩ; Material: Superflux; Performance Rated Current: 6 A; Saturation Current: 4.7 A; Self Resonant Frequency: 57 MHz; Category: Power Inductors; Match Code: WE-HCI; ComponentLink1Description: Website Link; ComponentLink1URL: https://www.we-online.com/redexpert/article/744316470?ad; ComponentLink2Description: Datasheet Link; ComponentLink2URL: https://www.we-online.com/redexpert/spec/744316470?ad; Mount: Surface Mount; Min Operating Temperature: -40 °C; Max Operating Temperature: 150 °C; Packaging: Tape and Reel; Length: 5.3 mm; Width: 5.5 mm; Height: 4 mm; Inductance: 4.7 µH
footprint WE-HCI_5040
simulation model 5040_744316470_4.7u
pins: 1, 2

## 744316560
designator L?, comment 5.6 µH
WE-HCI SMT Flat Wire High Current Inductor, size 5040, 5.6 µH, 5.5 A, 28.5 mΩ; Manufacturer Part Number: 744316560; Manufacturer: Wurth Elektronik; Case/Size Code: 5040; DC Resistance: 28.5 mΩ; Material: Superflux; Performance Rated Current: 5.5 A; Saturation Current: 4.6 A; Self Resonant Frequency: 48 MHz; Category: Power Inductors; Match Code: WE-HCI; ComponentLink1Description: Website Link; ComponentLink1URL: https://www.we-online.com/redexpert/article/744316560?ad; ComponentLink2Description: Datasheet Link; ComponentLink2URL: https://www.we-online.com/redexpert/spec/744316560?ad; Mount: Surface Mount; Min Operating Temperature: -40 °C; Max Operating Temperature: 150 °C; Packaging: Tape and Reel; Length: 5.3 mm; Width: 5.5 mm; Height: 4 mm; Inductance: 5.6 µH
footprint WE-HCI_5040
simulation model 5040_744316560_5.6u
pins: 1, 2

## 744323020
designator L?, comment 0.2 µH
WE-HCI SMT Flat Wire High Current Inductor, size 1030, 0.2 µH, 52.4 A, 0.82 mΩ; Manufacturer Part Number: 744323020; Manufacturer: Wurth Elektronik; Case/Size Code: 1030; DC Resistance: 0.82 mΩ; Material: Superflux; Performance Rated Current: 52.4 A; Saturation Current: 50 A; Self Resonant Frequency: 216 MHz; Category: Power Inductors; Match Code: WE-HCI; ComponentLink1Description: Website Link; ComponentLink1URL: https://www.we-online.com/redexpert/article/744323020?ad; ComponentLink2Description: Datasheet Link; ComponentLink2URL: https://www.we-online.com/redexpert/spec/744323020?ad; Mount: Surface Mount; Min Operating Temperature: -40 °C; Max Operating Temperature: 150 °C; Packaging: Tape and Reel; Length: 10.6 mm; Width: 10.6 mm; Height: 2.8 mm; Inductance: 0.2 µH
footprint WE-HCI_1030
simulation model 1030_744323020_0.2u
pins: 1, 2

## 744323033
designator L?, comment 0.33 µH
WE-HCI SMT Flat Wire High Current Inductor, size 1030, 0.33 µH, 30.9 A, 2.17 mΩ; Manufacturer Part Number: 744323033; Manufacturer: Wurth Elektronik; Case/Size Code: 1030; DC Resistance: 2.17 mΩ; Material: Superflux; Performance Rated Current: 30.9 A; Saturation Current: 36 A; Self Resonant Frequency: 119 MHz; Category: Power Inductors; Match Code: WE-HCI; ComponentLink1Description: Website Link; ComponentLink1URL: https://www.we-online.com/redexpert/article/744323033?ad; ComponentLink2Description: Datasheet Link; ComponentLink2URL: https://www.we-online.com/redexpert/spec/744323033?ad; Mount: Surface Mount; Min Operating Temperature: -40 °C; Max Operating Temperature: 150 °C; Packaging: Tape and Reel; Length: 10.6 mm; Width: 10.6 mm; Height: 2.8 mm; Inductance: 0.33 µH
footprint WE-HCI_1030
simulation model 1030_744323033_0.33u
pins: 1, 2

## 744323056
designator L?, comment 0.56 µH
WE-HCI SMT Flat Wire High Current Inductor, size 1030, 0.56 µH, 30.9 A, 2.17 mΩ; Manufacturer Part Number: 744323056; Manufacturer: Wurth Elektronik; Case/Size Code: 1030; DC Resistance: 2.17 mΩ; Material: Superflux; Performance Rated Current: 30.9 A; Saturation Current: 33 A; Self Resonant Frequency: 106 MHz; Category: Power Inductors; Match Code: WE-HCI; ComponentLink1Description: Website Link; ComponentLink1URL: https://www.we-online.com/redexpert/article/744323056?ad; ComponentLink2Description: Datasheet Link; ComponentLink2URL: https://www.we-online.com/redexpert/spec/744323056?ad; Mount: Surface Mount; Min Operating Temperature: -40 °C; Max Operating Temperature: 150 °C; Packaging: Tape and Reel; Length: 10.6 mm; Width: 10.6 mm; Height: 2.8 mm; Inductance: 0.56 µH
footprint WE-HCI_1030
simulation model 1030_744323056_0.56u
pins: 1, 2

## 744323068
designator L?, comment 0.68 µH
WE-HCI SMT Flat Wire High Current Inductor, size 1030, 0.68 µH, 19.4 A, 4.79 mΩ; Manufacturer Part Number: 744323068; Manufacturer: Wurth Elektronik; Case/Size Code: 1030; DC Resistance: 4.79 mΩ; Material: Superflux; Performance Rated Current: 19.4 A; Saturation Current: 21 A; Self Resonant Frequency: 51 MHz; Category: Power Inductors; Match Code: WE-HCI; ComponentLink1Description: Website Link; ComponentLink1URL: https://www.we-online.com/redexpert/article/744323068?ad; ComponentLink2Description: Datasheet Link; ComponentLink2URL: https://www.we-online.com/redexpert/spec/744323068?ad; Mount: Surface Mount; Min Operating Temperature: -40 °C; Max Operating Temperature: 150 °C; Packaging: Tape and Reel; Length: 10.6 mm; Width: 10.6 mm; Height: 2.8 mm; Inductance: 0.68 µH
footprint WE-HCI_1030
simulation model 1030_744323068_0.68u
pins: 1, 2

## 744323100
designator L?, comment 1 µH
WE-HCI SMT Flat Wire High Current Inductor, size 1030, 1 µH, 19.4 A, 4.79 mΩ; Manufacturer Part Number: 744323100; Manufacturer: Wurth Elektronik; Case/Size Code: 1030; DC Resistance: 4.79 mΩ; Material: Superflux; Performance Rated Current: 19.4 A; Saturation Current: 21 A; Self Resonant Frequency: 69 MHz; Category: Power Inductors; Match Code: WE-HCI; ComponentLink1Description: Website Link; ComponentLink1URL: https://www.we-online.com/redexpert/article/744323100?ad; ComponentLink2Description: Datasheet Link; ComponentLink2URL: https://www.we-online.com/redexpert/spec/744323100?ad; Mount: Surface Mount; Min Operating Temperature: -40 °C; Max Operating Temperature: 150 °C; Packaging: Tape and Reel; Length: 10.6 mm; Width: 10.6 mm; Height: 2.8 mm; Inductance: 1 µH
footprint WE-HCI_1030
simulation model 1030_744323100_1u
pins: 1, 2

## 744323120
designator L?, comment 1.2 µH
WE-HCI SMT Flat Wire High Current Inductor, size 1030, 1.2 µH, 17.4 A, 6.6 mΩ; Manufacturer Part Number: 744323120; Manufacturer: Wurth Elektronik; Case/Size Code: 1030; DC Resistance: 6.6 mΩ; Material: Superflux; Performance Rated Current: 17.4 A; Saturation Current: 15 A; Self Resonant Frequency: 59 MHz; Category: Power Inductors; Match Code: WE-HCI; ComponentLink1Description: Website Link; ComponentLink1URL: https://www.we-online.com/redexpert/article/744323120?ad; ComponentLink2Description: Datasheet Link; ComponentLink2URL: https://www.we-online.com/redexpert/spec/744323120?ad; Mount: Surface Mount; Min Operating Temperature: -40 °C; Max Operating Temperature: 150 °C; Packaging: Tape and Reel; Length: 10.6 mm; Width: 10.6 mm; Height: 2.8 mm; Inductance: 1.2 µH
footprint WE-HCI_1030
simulation model 1030_744323120_1.2u
pins: 1, 2

## 744323150
designator L?, comment 1.5 µH
WE-HCI SMT Flat Wire High Current Inductor, size 1030, 1.5 µH, 17.4 A, 6.6 mΩ; Manufacturer Part Number: 744323150; Manufacturer: Wurth Elektronik; Case/Size Code: 1030; DC Resistance: 6.6 mΩ; Material: Superflux; Performance Rated Current: 17.4 A; Saturation Current: 18 A; Self Resonant Frequency: 43 MHz; Category: Power Inductors; Match Code: WE-HCI; ComponentLink1Description: Website Link; ComponentLink1URL: https://www.we-online.com/redexpert/article/744323150?ad; ComponentLink2Description: Datasheet Link; ComponentLink2URL: https://www.we-online.com/redexpert/spec/744323150?ad; Mount: Surface Mount; Min Operating Temperature: -40 °C; Max Operating Temperature: 150 °C; Packaging: Tape and Reel; Length: 10.6 mm; Width: 10.6 mm; Height: 2.8 mm; Inductance: 1.5 µH
footprint WE-HCI_1030
simulation model 1030_744323150_1.5u
pins: 1, 2

## 744323220
designator L?, comment 2.2 µH
WE-HCI SMT Flat Wire High Current Inductor, size 1030, 2.2 µH, 12.4 A, 11.38 mΩ; Manufacturer Part Number: 744323220; Manufacturer: Wurth Elektronik; Case/Size Code: 1030; Material: Superflux; Performance Rated Current: 12.4 A; Saturation Current: 15 A; Self Resonant Frequency: 36 MHz; Category: Power Inductors; Match Code: WE-HCI; ComponentLink1Description: Website Link; ComponentLink1URL: https://www.we-online.com/redexpert/article/744323220?ad; ComponentLink2Description: Datasheet Link; ComponentLink2URL: https://www.we-online.com/redexpert/spec/744323220?ad; Mount: Surface Mount; Min Operating Temperature: -40 °C; Max Operating Temperature: 150 °C; Packaging: Tape and Reel; Length: 10.6 mm; Width: 10.6 mm; Height: 2.8 mm; DC Resistance: 11.38 mΩ; Inductance: 2.2 µH
footprint WE-HCI_1030
simulation model 1030_744323220_2.2u
pins: 1, 2

## 744325016
designator L?, comment 0.16 µH
WE-HCI SMT Flat Wire High Current Inductor, size 1050, 0.16 µH, 57.2 A, 0.51 mΩ; Manufacturer Part Number: 744325016; Manufacturer: Wurth Elektronik; Case/Size Code: 1050; DC Resistance: 0.51 mΩ; Material: Superflux; Performance Rated Current: 57.2 A; Saturation Current: 58 A; Self Resonant Frequency: 400 MHz; Category: Power Inductors; Match Code: WE-HCI; ComponentLink1Description: Website Link; ComponentLink1URL: https://www.we-online.com/redexpert/article/744325016?ad; ComponentLink2Description: Datasheet Link; ComponentLink2URL: https://www.we-online.com/redexpert/spec/744325016?ad; Mount: Surface Mount; Min Operating Temperature: -40 °C; Max Operating Temperature: 150 °C; Packaging: Tape and Reel; Length: 10.2 mm; Width: 10.2 mm; Height: 4.7 mm; Inductance: 0.16 µH
footprint WE-HCI_1050
simulation model 1050_744325016_0.16u
pins: 1, 2

## 744325040
designator L?, comment 0.4 µH
WE-HCI SMT Flat Wire High Current Inductor, size 1050, 0.4 µH, 55.7 A, 0.67 mΩ; Manufacturer Part Number: 744325040; Manufacturer: Wurth Elektronik; Case/Size Code: 1050; DC Resistance: 0.67 mΩ; Material: Superflux; Performance Rated Current: 55.7 A; Saturation Current: 37 A; Self Resonant Frequency: 160 MHz; Category: Power Inductors; Match Code: WE-HCI; ComponentLink1Description: Website Link; ComponentLink1URL: https://www.we-online.com/redexpert/article/744325040?ad; ComponentLink2Description: Datasheet Link; ComponentLink2URL: https://www.we-online.com/redexpert/spec/744325040?ad; Mount: Surface Mount; Min Operating Temperature: -40 °C; Max Operating Temperature: 150 °C; Packaging: Tape and Reel; Length: 10.2 mm; Width: 10.2 mm; Height: 4.7 mm; Inductance: 0.4 µH
footprint WE-HCI_1050
simulation model 1050_744325040_0.4u
pins: 1, 2

## 744325072
designator L?, comment 0.72 µH
WE-HCI SMT Flat Wire High Current Inductor, size 1050, 0.72 µH, 37.8 A, 1.3 mΩ; Manufacturer Part Number: 744325072; Manufacturer: Wurth Elektronik; Case/Size Code: 1050; DC Resistance: 1.3 mΩ; Material: Superflux; Performance Rated Current: 37.8 A; Saturation Current: 35 A; Self Resonant Frequency: 115 MHz; Category: Power Inductors; Match Code: WE-HCI; ComponentLink1Description: Website Link; ComponentLink1URL: https://www.we-online.com/redexpert/article/744325072?ad; ComponentLink2Description: Datasheet Link; ComponentLink2URL: https://www.we-online.com/redexpert/spec/744325072?ad; Mount: Surface Mount; Min Operating Temperature: -40 °C; Max Operating Temperature: 150 °C; Packaging: Tape and Reel; Length: 10.2 mm; Width: 10.2 mm; Height: 4.7 mm; Inductance: 0.72 µH
footprint WE-HCI_1050
simulation model 1050_744325072_0.72u
pins: 1, 2

## 744325120
designator L?, comment 1.2 µH
WE-HCI SMT Flat Wire High Current Inductor, size 1050, 1.2 µH, 32.6 A, 1.8 mΩ; Manufacturer Part Number: 744325120; Manufacturer: Wurth Elektronik; Case/Size Code: 1050; DC Resistance: 1.8 mΩ; Material: Superflux; Performance Rated Current: 32.6 A; Saturation Current: 25 A; Self Resonant Frequency: 75 MHz; Category: Power Inductors; Match Code: WE-HCI; ComponentLink1Description: Website Link; ComponentLink1URL: https://www.we-online.com/redexpert/article/744325120?ad; ComponentLink2Description: Datasheet Link; ComponentLink2URL: https://www.we-online.com/redexpert/spec/744325120?ad; Mount: Surface Mount; Min Operating Temperature: -40 °C; Max Operating Temperature: 150 °C; Packaging: Tape and Reel; Length: 10.2 mm; Width: 10.2 mm; Height: 4.7 mm; Inductance: 1.2 µH
footprint WE-HCI_1050
simulation model 1050_744325120_1.2u
pins: 1, 2